# EAGLE library part -LCD2X16 (library my_tango)
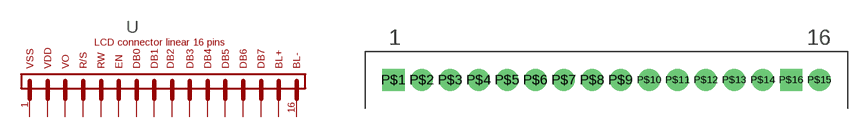
[diagram p16: symbol with the pads of CON8X2LCD; footprint CON8X2LCD]

Designator prefix -

## -LCD2X16  [CON8X2LCD]
P$1  VSS  pas
P$2  VDD  pas
P$3  V0  pas
P$4  RW  pas
P$5  R/S  pas
P$6  EN  pas
P$7  DB0  pas
P$8  DB1  pas
P$9  DB2  pas
P$10  DB3  pas
P$11  DB4  pas
P$12  DB5  pas
P$13  DB6  pas
P$14  DB7  pas
P$15  BKL+  pas
P$16  BKL-  pas

## Footprint CON8X2LCD (pad centres in mm)
drill 1 pad 1.778 square: P$1 -15.494,-0.254; P$16 16.51,-0.254
drill 1 pad 1.778: P$2 -13.208,-0.254; P$3 -10.922,-0.254; P$4 -8.636,-0.254; P$5 -6.35,-0.254; P$6 -4.064,-0.254; P$7 -1.778,-0.254; P$8 0.508,-0.254; P$9 2.794,-0.254; P$10 5.08,-0.254; P$11 7.366,-0.254; P$12 9.652,-0.254; P$13 11.938,-0.254; P$14 14.224,-0.254; P$15 18.796,-0.254